# Altium schematic symbol library SPECCY2007_Library.SchLib: 20 symbols
Pins are listed as number, name and electrical type; pins without a type are passive.

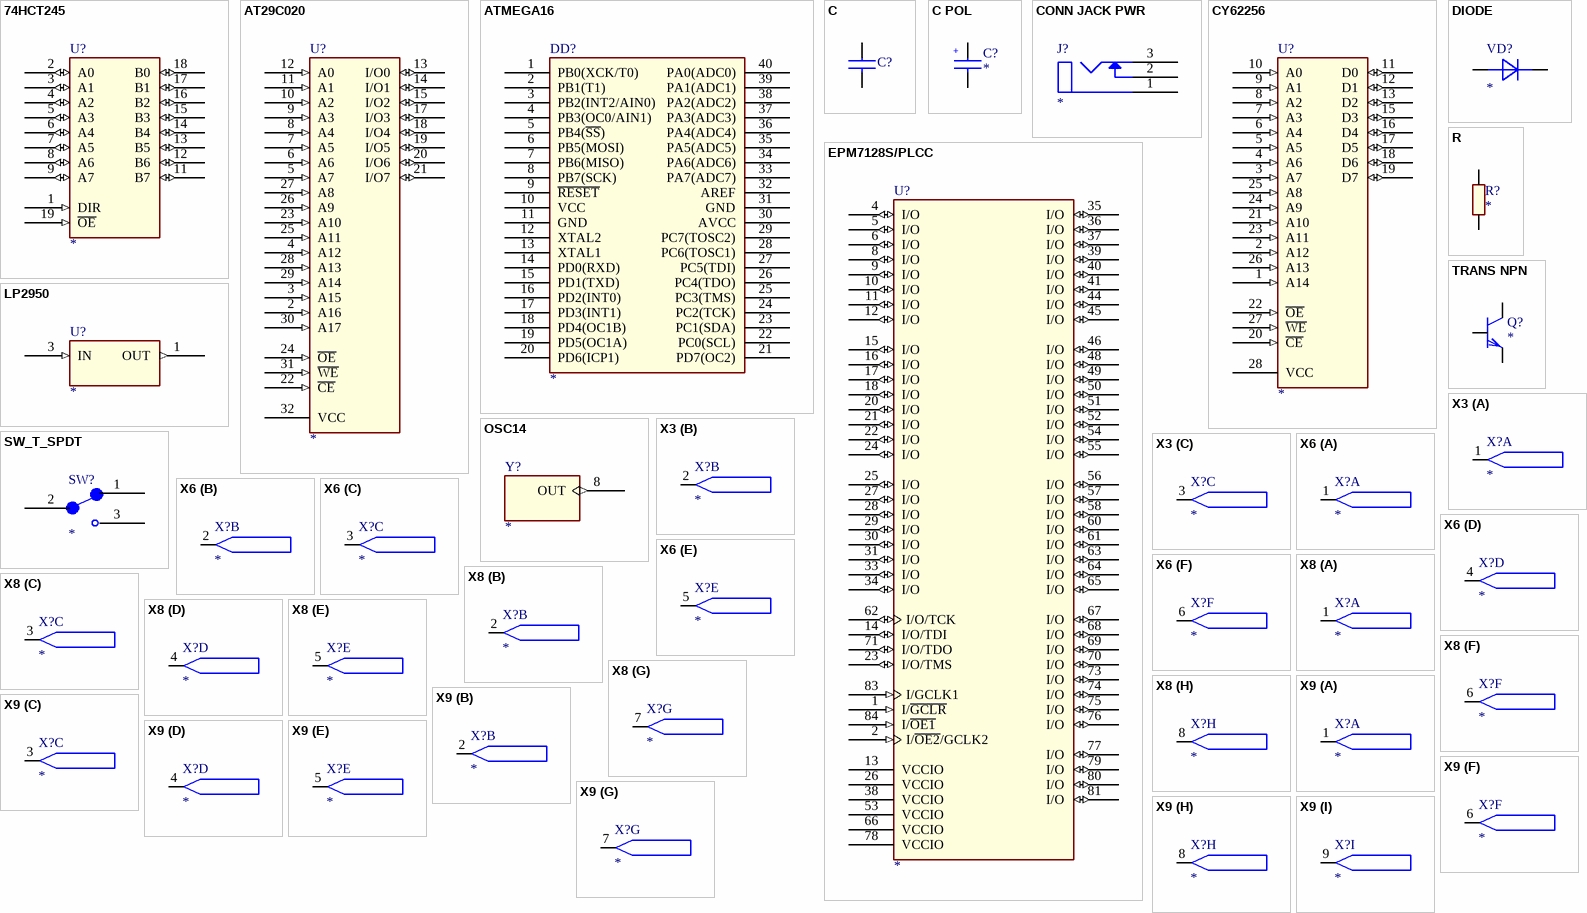
[diagram p0: symbols 74HCT245 to X9]

## 74HCT245
designator U?
footprint DIP-20 (DIP, 20-Pin, Row Spacing 7.62 mm, Pitch 2.54 mm)
pins: 1 DIR (in), 2 A0 (io), 3 A1 (io), 4 A2 (io), 5 A3 (io), 6 A4 (io), 7 A5 (io), 8 A6 (io), 9 A7 (io), 10 GND (power) hidden to GND, 11 B7 (io), 12 B6 (io), 13 B5 (io), 14 B4 (io), 15 B3 (io), 16 B2 (io), 17 B1 (io), 18 B0 (io), 19 ~{OE} (in), 20 VCC (power) hidden to VCC

## AT29C020
designator U?
footprint DIP-32/D41.2 (DIP, Ceramic, 32-Pin, Row Spacing 15.24 mm, Pitch 2.54 mm)
pins: 2 A16 (in), 3 A15 (in), 4 A12 (in), 5 A7 (in), 6 A6 (in), 7 A5 (in), 8 A4 (in), 9 A3 (in), 10 A2 (in), 11 A1 (in), 12 A0 (in), 13 I/O0 (io), 14 I/O1 (io), 15 I/O2 (io), 16 GND (power) hidden to GND, 17 I/O3 (io), 18 I/O4 (io), 19 I/O5 (io), 20 I/O6 (io), 21 I/O7 (io), 22 ~{CE} (in), 23 A10 (in), 24 ~{OE} (in), 25 A11 (in), 26 A9 (in), 27 A8 (in), 28 A13 (in), 29 A14 (in), 30 A17 (in), 31 ~{WE} (in), 32 VCC (power)

## ATMEGA16
designator DD?
footprint DIP-40 (DIP, 40-Pin, Row Spacing 15.24 mm, Pitch 2.54 mm)
pins: 1 PB0(XCK/T0), 2 PB1(T1), 3 PB2(INT2/AIN0), 4 PB3(OC0/AIN1), 5 PB4(~{SS}), 6 PB5(MOSI), 7 PB6(MISO), 8 PB7(SCK), 9 ~{RESET}, 10 VCC, 11 GND, 12 XTAL2, 13 XTAL1, 14 PD0(RXD), 15 PD1(TXD), 16 PD2(INT0), 17 PD3(INT1), 18 PD4(OC1B), 19 PD5(OC1A), 20 PD6(ICP1), 21 PD7(OC2), 22 PC0(SCL), 23 PC1(SDA), 24 PC2(TCK), 25 PC3(TMS), 26 PC4(TDO), 27 PC5(TDI), 28 PC6(TOSC1), 29 PC7(TOSC2), 30 AVCC, 31 GND, 32 AREF, 33 PA7(ADC7), 34 PA6(ADC6), 35 PA5(ADC5), 36 PA4(ADC4), 37 PA3(ADC3), 38 PA2(ADC2), 39 PA1(ADC1), 40 PA0(ADC0)

## C
designator C?  (value not drawn)
footprint CAP_5.08-7.8x3.2 (Capacitor, Ceramic, Thru-Hole, Dipped Radial; Body 7.8 x 3.2 mm (WxT) Pin Spacing 5.08 mm (typ))
pins: 1, 2

## C POL
designator C?
footprint CAPPOL_2.54
pins: MINUS, PLUS
text: +

## CONN JACK PWR
designator J?
footprint CONN JACK PWR (Разъем питания (штекер))
pins: 1, 2, 3

## CY62256
designator U?
footprint DIP-28W (DIP, 28-Leads, Row Spacing 15.24mm, Pitch 2.54mm, Body 37x13.3mm, Window)
pins: 1 A14 (in), 2 A12 (in), 3 A7 (in), 4 A6 (in), 5 A5 (in), 6 A4 (in), 7 A3 (in), 8 A2 (in), 9 A1 (in), 10 A0 (in), 11 D0 (io), 12 D1 (io), 13 D2 (io), 14 GND (power) hidden to GND, 15 D3 (io), 16 D4 (io), 17 D5 (io), 18 D6 (io), 19 D7 (io), 20 ~{CE} (in), 21 A10 (in), 22 ~{OE} (in), 23 A11 (in), 24 A9 (in), 25 A8 (in), 26 A13 (in), 27 ~{WE} (in), 28 VCC (power)

## DIODE
designator VD?
footprint DIODE_2.54 (Диод DO35 вертикально)
footprint DIODE_10.16 (Диод DO35 горизонтально)
pins: A, K

## EPM7128S/PLCC
designator U?
footprint PLCC84-Socket+AlteraMAX700S (Панелька для PLCC84)
pins: 1 I/~{GCLR} (in), 2 I/~{OE2}/GCLK2 (in), 3 VCC (power) hidden to VCC, 4 I/O (io), 5 I/O (io), 6 I/O (io), 7 GND (power) hidden to GND, 8 I/O (io), 9 I/O (io), 10 I/O (io), 11 I/O (io), 12 I/O (io), 13 VCCIO (power), 14 I/O/TDI (io), 15 I/O (io), 16 I/O (io), 17 I/O (io), 18 I/O (io), 19 GND (power) hidden to GND, 20 I/O (io), 21 I/O (io), 22 I/O (io), 23 I/O/TMS (io), 24 I/O (io), 25 I/O (io), 26 VCCIO (power), 27 I/O (io), 28 I/O (io), 29 I/O (io), 30 I/O (io), 31 I/O (io), 32 GND (power) hidden to GND, 33 I/O (io), 34 I/O (io), 35 I/O (io), 36 I/O (io), 37 I/O (io), 38 VCCIO (power), 39 I/O (io), 40 I/O (io), 41 I/O (io), 42 GND (power) hidden to GND, 43 VCC (power) hidden to VCC, 44 I/O (io), 45 I/O (io), 46 I/O (io), 47 GND (power) hidden to GND, 48 I/O (io), 49 I/O (io), 50 I/O (io), 51 I/O (io), 52 I/O (io), 53 VCCIO (power), 54 I/O (io), 55 I/O (io), 56 I/O (io), 57 I/O (io), 58 I/O (io), 59 GND (power) hidden to GND, 60 I/O (io), 61 I/O (io), 62 I/O/TCK (io), 63 I/O (io), 64 I/O (io), 65 I/O (io), 66 VCCIO (power), 67 I/O (io), 68 I/O (io), 69 I/O (io), 70 I/O (io), 71 I/O/TDO (io), 72 GND (power) hidden to GND, 73 I/O (io), 74 I/O (io), 75 I/O (io), 76 I/O (io), 77 I/O (io), 78 VCCIO (power), 79 I/O (io), 80 I/O (io), 81 I/O (io), 82 GND (power) hidden to GND, 83 I/GCLK1 (in), 84 I/~{OE1} (in)

## LP2950
designator U?
footprint TO92 (TO, Flat Index; 3 In-Line, Axial Leads; Body Dia. 4.8mm; Leads 0.48 x 0.5 mm (max))
pins: 1 OUT (out), 2 GND (power) hidden to GND, 3 IN (in)

## OSC14
designator Y?
footprint OSC14 (Генератор)
pins: 7 GND (power) hidden to GND, 8 OUT (out), 14 VCC (power) hidden to VCC

## R
designator R?
footprint RES-2.54 (Резистор вертикально)
footprint RES_10.16 (Резистор, Thru-Hole; 2 Leads; 0.4 in Pin Spacing)
pins: 1, 2

## SW_T_SPDT
designator SW?
footprint SW_T_SPDT (Кнопка питания на плату)
pins: 1 NC, 2 COMMON, 3 NO

## TRANS NPN
designator Q?
footprint TO92 (TO, Flat Index; 3 In-Line, Axial Leads; Body Dia. 4.8mm; Leads 0.48 x 0.5 mm (max))
pins: 1 e, 2 b, 3 c

## X3
designator X?
footprint CONN JACK PWR (Разъем питания (штекер))
part A pins: 1 CON
part B pins: 2 CON
part C pins: 3 CON

## X6
designator X?
footprint Mini-DIN6 (Штекер Mini-DIN 6 pin)
part A pins: 1 CON
part B pins: 2 CON
part C pins: 3 CON
part D pins: 4 CON
part E pins: 5 CON
part F pins: 6 CON

## X8
designator X?
footprint Mini-DIN8 (Разъем Mini-DIN 8 pin)
part A pins: 1 CON
part B pins: 2 CON
part C pins: 3 CON
part D pins: 4 CON
part E pins: 5 CON
part F pins: 6 CON
part G pins: 7 CON
part H pins: 8 CON

## X9
designator X?
SD Card socket
footprint SD Card socket (Разъем SD карты)
part A pins: 1 CON
part B pins: 2 CON
part C pins: 3 CON
part D pins: 4 CON
part E pins: 5 CON
part F pins: 6 CON
part G pins: 7 CON
part H pins: 8 CON
part I pins: 9 CON

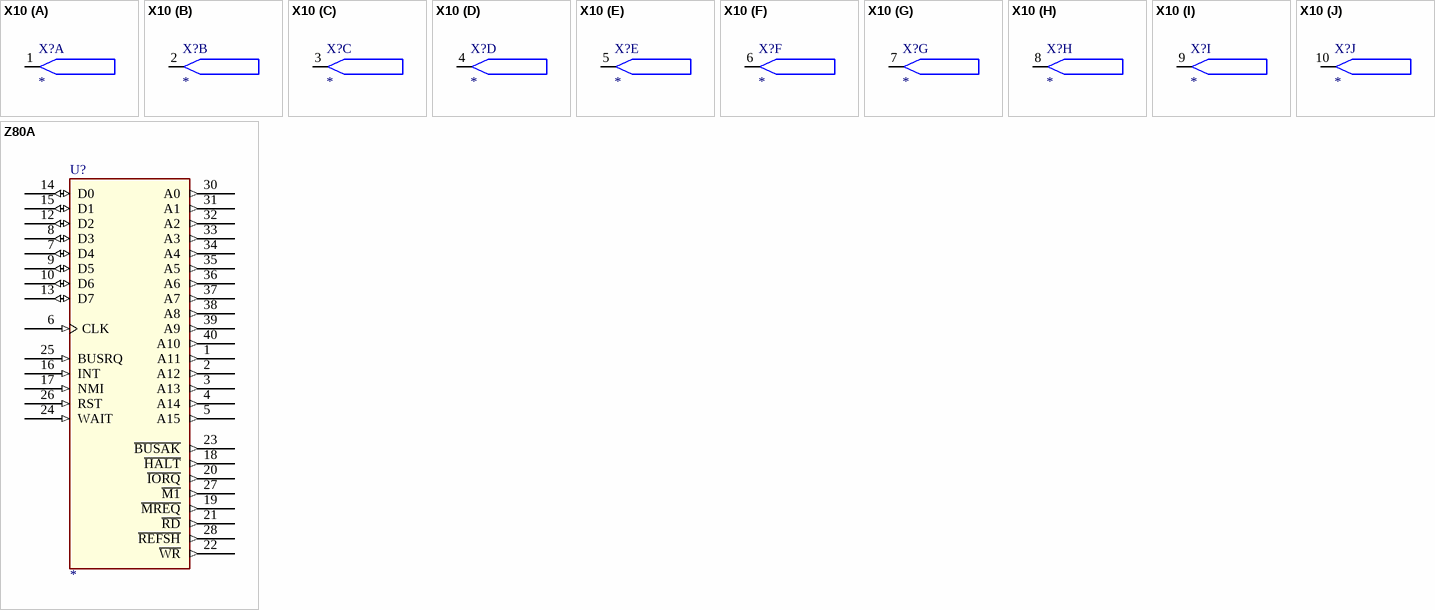
[diagram p1: symbols X10 to Z80A]

## X10
designator X?
footprint Double row pin strip 5 way (Гребенка на 10 контактов)
part A pins: 1 CON
part B pins: 2 CON
part C pins: 3 CON
part D pins: 4 CON
part E pins: 5 CON
part F pins: 6 CON
part G pins: 7 CON
part H pins: 8 CON
part I pins: 9 CON
part J pins: 10 CON

## Z80A
designator U?
footprint DIP-40 (DIP, 40-Pin, Row Spacing 15.24 mm, Pitch 2.54 mm)
pins: 1 A11 (out), 2 A12 (out), 3 A13 (out), 4 A14 (out), 5 A15 (out), 6 CLK (in), 7 D4 (io), 8 D3 (io), 9 D5 (io), 10 D6 (io), 11 VCC (power) hidden to VCC, 12 D2 (io), 13 D7 (io), 14 D0 (io), 15 D1 (io), 16 INT (in), 17 NMI (in), 18 ~{HALT} (out), 19 ~{MREQ} (out), 20 ~{IORQ} (out), 21 ~{RD} (out), 22 ~{WR} (out), 23 ~{BUSAK} (out), 24 WAIT (in), 25 BUSRQ (in), 26 RST (in), 27 ~{M1} (out), 28 ~{REFSH} (out), 29 GND (power) hidden to GND, 30 A0 (out), 31 A1 (out), 32 A2 (out), 33 A3 (out), 34 A4 (out), 35 A5 (out), 36 A6 (out), 37 A7 (out), 38 A8 (out), 39 A9 (out), 40 A10 (out)